# Altium footprint library Lib.PcbLib: 2 footprints
Each footprint in its own frame and in the unit in brackets; x right, y up, seen from the top. Pads: shape width x height; smd on the part's side, far side on the other; paste and mask are expansions set on the pad; w line width, h text height; cw(c..) or ccw(c..) is an arc to the next point about the centre after c.
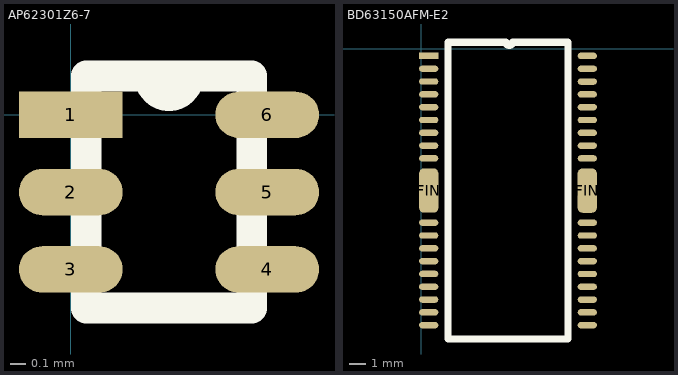
[diagram p0: the footprints below, top view; thin cyan lines are the x and y axes]

## AP62301Z6-7 [mm] "Switching Voltage Regulators DCDC Conv HV Buck SOT563 T&R 3K"
height 0.6
pads (6):
  rect 0.67x0.3 smd: 1(0,0)
  oval 0.67x0.3 smd: 2(0,-0.5) 3(0,-1) 4(1.27,-1) 5(1.27,-0.5) 6(1.27,0)
Top Overlay:
  lines w0.2: 0.1,-1.25 1.17,-1.25 1.17,0.25 0.51,0.25 ccw(c0.635,0.25) 0.76,0.25 0.1,0.25 0.1,-1.25

## BD63150AFM-E2 [mm] "HSOP38"
height 2.4
pads (38):
  rect 1.2x0.4 smd: 1(0.46,-0.45)
  oval 1.2x0.4 smd: 2(0.46,-1.25) 3(0.46,-2.05) 4(0.46,-2.85) 5(0.46,-3.65) 6(0.46,-4.45) 7(0.46,-5.25) 8(0.46,-6.05) 9(0.46,-6.85) 10(0.46,-10.864) 11(0.46,-11.664) 12(0.46,-12.464) 13(0.46,-13.264) 14(0.46,-14.064) 15(0.46,-14.864) 16(0.46,-15.664) 17(0.46,-16.464) 18(0.46,-17.264) 19(10.36,-17.266) 20(10.36,-16.466) 21(10.36,-15.666) 23(10.36,-14.066) 24(10.36,-13.266) 25(10.36,-12.466) 26(10.36,-11.666) 27(10.36,-10.866) 28(10.36,-6.852) 29(10.36,-6.052) 30(10.36,-5.252) 31(10.36,-4.452) 32(10.36,-3.652) 33(10.36,-2.852) 34(10.36,-2.052) 35(10.36,-1.252) 36(10.36,-0.45) " 22"(10.36,-14.866)
  rrect50% 1.2x2.77 smd: FIN(0.46,-8.857) FIN(10.36,-8.859)
Top Overlay:
  lines w0.45: 1.66,0.373 1.66,-18.127 9.16,-18.127 9.16,0.406 ; 1.685,0.4 5.258,0.4 ; 5.283,0.406 ccw(c5.483,0.406) 5.683,0.406 ; 5.69,0.4 9.144,0.4